# EAGLE library part LM2678 (library ds_ic_vreg)
High-Efficiency, 5A, Step-Down Voltage Regulator
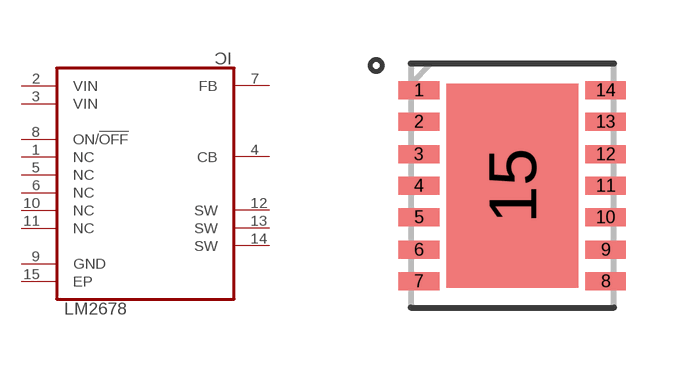
[diagram p0: symbol with the pads of VSON14-5X6; footprint VSON14-5X6]

Designator prefix IC

## LM2678SDX-5.0/NOPB (DATASHEET: https://www.ti.com/lit/ds/symlink/lm2678.pdf; DESCRIPTION: Buck Switching Regulator IC Positive Fixed 5V 1 Output 5A 14-VDFN Exposed Pad; LCSC_PART: C2072712; MPN: LM2678SDX-5.0/NOPB; ROHS: YES; VALUE: LM2678)  [VSON14-5X6]
1  NC  pas
2  VIN  pwr
3  VIN  pwr
4  CB  pas
5  NC  pas
6  NC  pas
7  FB  in
8  ON/!OFF  in
9  GND  pwr
10  NC  pas
11  NC  pas
12  SW  pwr
13  SW  pwr
14  SW  pwr
15  EP  pwr

## Footprint VSON14-5X6 (pad centres in mm)
smd 1.016 x 0.457: 1 -2.337,2.388; 2 -2.337,1.6; 3 -2.337,0.787; 4 -2.337,0; 5 -2.337,-0.787; 6 -2.337,-1.6; 7 -2.337,-2.388; 8 2.337,-2.388; 9 2.337,-1.6; 10 2.337,-0.787; 11 2.337,0; 12 2.337,0.787; 13 2.337,1.6; 14 2.337,2.388
smd 3.302 x 5.105: 15 0,0